# Altium footprint library ON Semi MOSFETs.PcbLib: 92 footprints (part 3 of 6)
Each footprint in its own frame and in the unit in brackets; x right, y up, seen from the top. Pads: shape width x height; smd on the part's side, far side on the other; paste and mask are expansions set on the pad; w line width, h text height; cw(c..) or ccw(c..) is an arc to the next point about the centre after c.
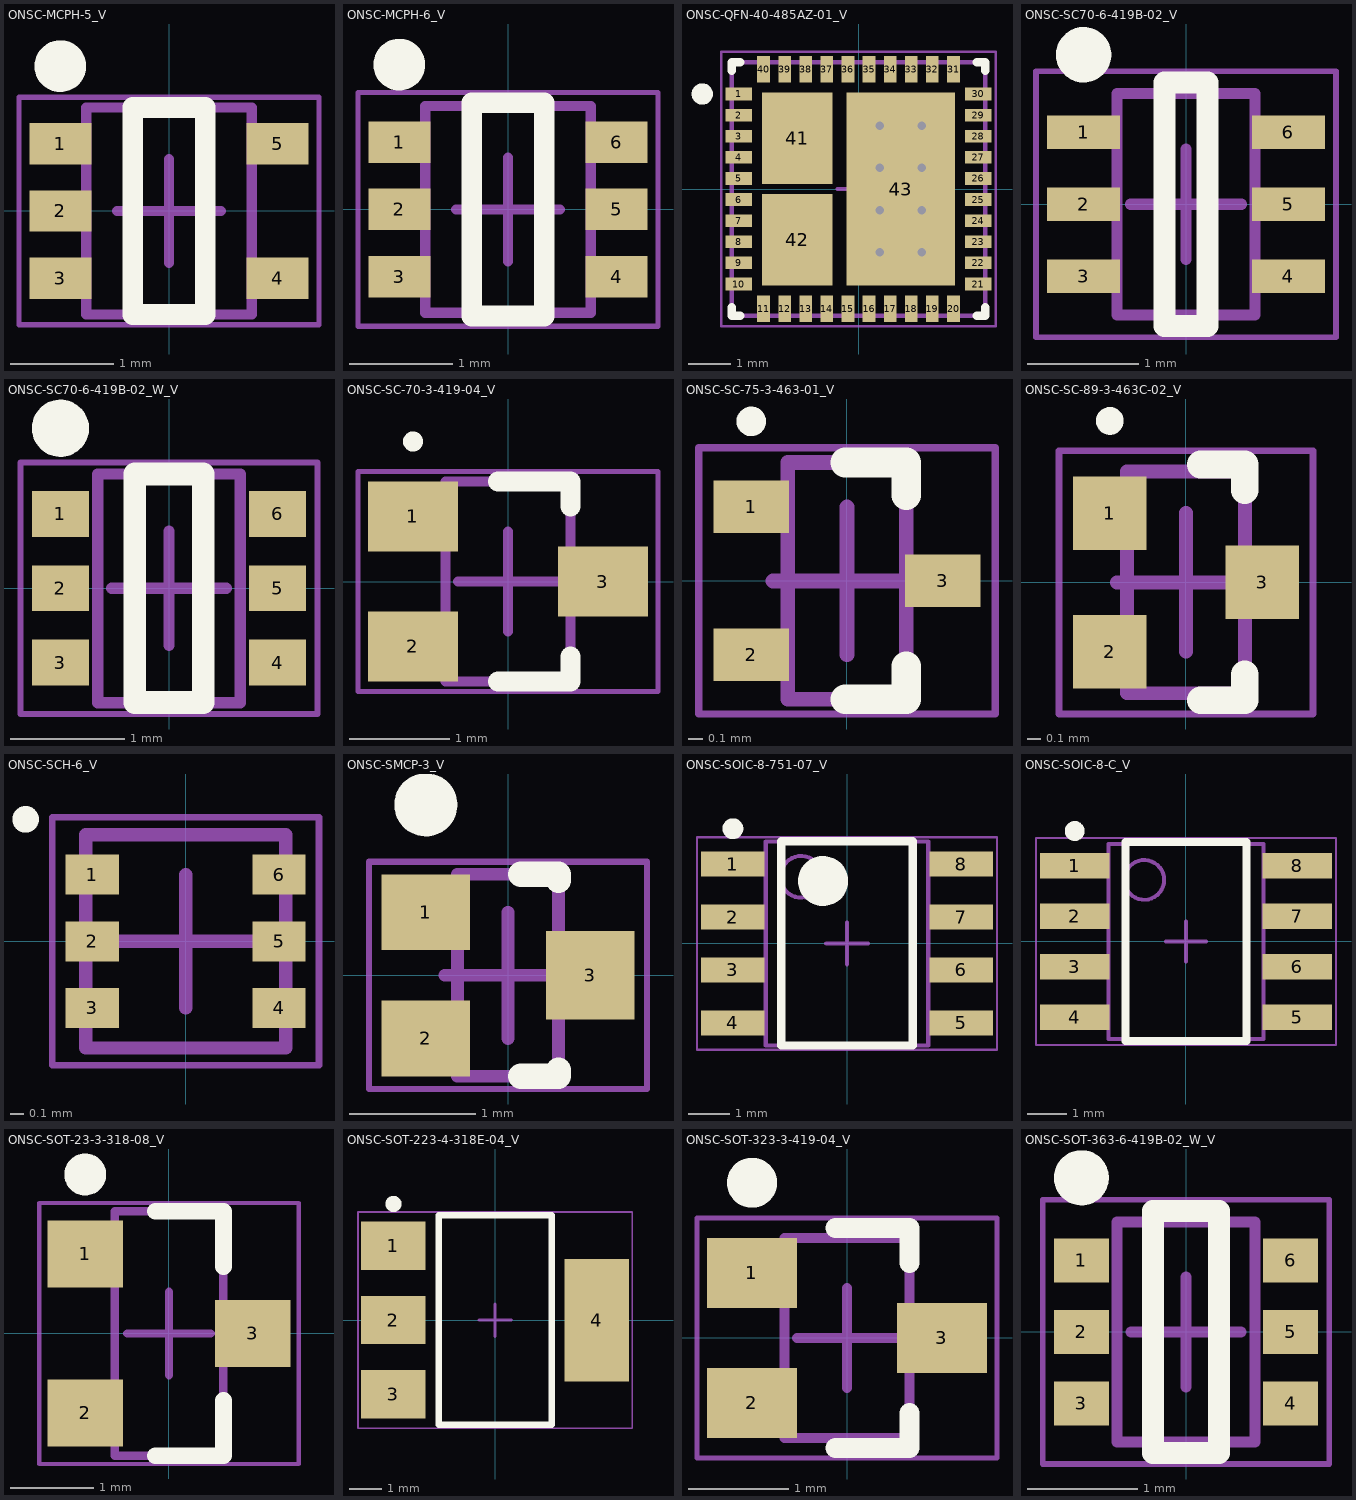
[diagram p2: the footprints below, top view; thin cyan lines are the x and y axes]

## ONSC-MCPH-5_V [mm] "SOT23, 5-Leads, Body 2x1.6mm, Pitch 0.65mm"
height 0.9
pads (5):
  rect 0.6x0.4 smd: 1(-1.05,0.65) 2(-1.05,0) 3(-1.05,-0.65) 4(1.05,-0.65) 5(1.05,0.65)
Top Overlay:
  circle w0.25: c-1.05,1.4 r0.125
  lines w0.2: -0.35,-1 -0.35,1 0.35,1 0.35,-1 -0.35,-1
Mechanical 13:
  lines w0.1: -0.8,-1 -0.8,1 0.8,1 0.8,-1 -0.8,-1
Mechanical 15:
  lines w0.05: -1.45,-1.1 -1.45,1.1 1.45,1.1 1.45,-1.1 -1.45,-1.1
  lines w0.1: -0.5,0 0.5,0 ; 0,-0.5 0,0.5
3D body: height 0.9, standoff 0, extent -0.8,-1 0.8,1

## ONSC-MCPH-6_V [mm] "SOT23, 6-Leads, Body 2x1.6mm, Pitch 0.65mm"
height 0.9
pads (6):
  rect 0.6x0.4 smd: 1(-1.05,0.65) 2(-1.05,0) 3(-1.05,-0.65) 4(1.05,-0.65) 5(1.05,0) 6(1.05,0.65)
Top Overlay:
  circle w0.25: c-1.05,1.4 r0.125
  lines w0.2: -0.35,-1.03 0.35,-1.03 0.35,1.03 -0.35,1.03 -0.35,-1.03
Mechanical 13:
  lines w0.1: -0.8,-1 -0.8,1 0.8,1 0.8,-1 -0.8,-1
Mechanical 15:
  lines w0.05: -1.45,-1.13 -1.45,1.13 1.45,1.13 1.45,-1.13 -1.45,-1.13
  lines w0.1: -0.5,0 0.5,0 ; 0,-0.5 0,0.5
3D body: height 0.9, standoff 0, extent -0.8,-1 0.8,1

## ONSC-QFN-40-485AZ-01_V [mm] "QFN, 40-Leads, Body 6x6mm, Pitch 0.5mm"
height 1
pads (43):
  rect 0.63x0.3 smd: 1(-2.835,2.25) 2(-2.835,1.75) 3(-2.835,1.25) 4(-2.835,0.75) 5(-2.835,0.25) 6(-2.835,-0.25) 7(-2.835,-0.75) 8(-2.835,-1.25) 9(-2.835,-1.75) 10(-2.835,-2.25) 21(2.835,-2.25) 22(2.835,-1.75) 23(2.835,-1.25) 24(2.835,-0.75) 25(2.835,-0.25) 26(2.835,0.25) 27(2.835,0.75) 28(2.835,1.25) 29(2.835,1.75) 30(2.835,2.25)
  rect 0.3x0.63 smd: 11(-2.25,-2.835) 12(-1.75,-2.835) 13(-1.25,-2.835) 14(-0.75,-2.835) 15(-0.25,-2.835) 16(0.25,-2.835) 17(0.75,-2.835) 18(1.25,-2.835) 19(1.75,-2.835) 20(2.25,-2.835) 31(2.25,2.835) 32(1.75,2.835) 33(1.25,2.835) 34(0.75,2.835) 35(0.25,2.835) 36(-0.25,2.835) 37(-0.75,2.835) 38(-1.25,2.835) 39(-1.75,2.835) 40(-2.25,2.835)
  rect 1.66x2.16 smd: 41(-1.45,1.2) 42(-1.45,-1.2)
  rect 2.56x4.56 smd: 43(1,0)
via 0.5,-0.5 diameter 0.5 hole 0.2
via 1.5,-0.5 diameter 0.5 hole 0.2
via 1.5,0.5 diameter 0.5 hole 0.2
via 0.5,0.5 diameter 0.5 hole 0.2
via 1.5,1.5 diameter 0.5 hole 0.2
via 0.5,1.5 diameter 0.5 hole 0.2
via 1.5,-1.5 diameter 0.5 hole 0.2
via 0.5,-1.5 diameter 0.5 hole 0.2
Top Overlay:
  circle w0.25: c-3.7,2.25 r0.125
  lines w0.2: -3,-2.8 -3,-3 -2.8,-3 ; -3,2.8 -3,3 -2.8,3 ; 2.8,-3 3,-3 3,-2.8 ; 2.8,3 3,3 3,2.8
Mechanical 13:
  lines w0.1: -3,-3 -3,3 3,3 3,-3 -3,-3
Mechanical 15:
  lines w0.05: -3.25,-3.25 -3.25,3.25 3.25,3.25 3.25,-3.25 -3.25,-3.25
  lines w0.1: -0.5,0 0.5,0 ; 0,-0.5 0,0.5
3D body: height 1, standoff 0, extent -3,-3 3,3

## ONSC-SC70-6-419B-02_V [mm] "SOT23, 6-Leads, Body 2x1.25mm, Pitch 0.65mm"
height 1.1
pads (6):
  rect 0.66x0.3 smd: 1(-0.925,0.65) 2(-0.925,0) 3(-0.925,-0.65) 4(0.925,-0.65) 5(0.925,0) 6(0.925,0.65)
Top Overlay:
  circle w0.25: c-0.925,1.35 r0.125
  lines w0.2: -0.195,-1.1 0.195,-1.1 0.195,1.1 -0.195,1.1 -0.195,-1.1
Mechanical 13:
  lines w0.1: -0.625,-1 -0.625,1 0.625,1 0.625,-1 -0.625,-1
Mechanical 15:
  lines w0.05: -1.355,-1.2 -1.355,1.2 1.355,1.2 1.355,-1.2 -1.355,-1.2
  lines w0.1: -0.5,0 0.5,0 ; 0,-0.5 0,0.5
3D body: height 1.1, standoff 0, extent -0.625,-1 0.625,1

## ONSC-SC70-6-419B-02_W_V [mm] "SOT23, 6-Leads, Body 2x1.25mm, Pitch 0.65mm"
height 1.1
pads (6):
  rect 0.5x0.4 smd: 1(-0.95,0.65) 2(-0.95,0) 3(-0.95,-0.65) 4(0.95,-0.65) 5(0.95,0) 6(0.95,0.65)
Top Overlay:
  circle w0.25: c-0.95,1.4 r0.125
  lines w0.2: -0.3,-1 0.3,-1 0.3,1 -0.3,1 -0.3,-1
Mechanical 13:
  lines w0.1: -0.625,-1 -0.625,1 0.625,1 0.625,-1 -0.625,-1
Mechanical 15:
  lines w0.05: -1.3,-1.1 -1.3,1.1 1.3,1.1 1.3,-1.1 -1.3,-1.1
  lines w0.1: -0.5,0 0.5,0 ; 0,-0.5 0,0.5
3D body: height 1.1, standoff 0, extent -0.625,-1 0.625,1

## ONSC-SC-70-3-419-04_V [mm] "SOT23, 3-Leads, Body 2x1.25mm, Pitch 0.65mm"
height 1
pads (3):
  rect 0.9x0.7 smd: 1(-0.95,0.65) 2(-0.95,-0.65) 3(0.95,0)
Top Overlay:
  circle w0.1: c-0.95,1.4 r0.05
  lines w0.2: -0.1,-1 0.625,-1 0.625,-0.75 ; -0.1,1 0.625,1 0.625,0.75
Mechanical 13:
  lines w0.1: -0.625,-1 0.625,-1 0.625,1 -0.625,1 -0.625,-1
Mechanical 15:
  lines w0.05: -1.5,-1.1 1.5,-1.1 1.5,1.1 -1.5,1.1 -1.5,-1.1
  lines w0.1: -0.5,0 0.5,0 ; 0,-0.5 0,0.5
3D body: height 1, standoff 0, extent -0.625,-1 0.625,1

## ONSC-SC-75-3-463-01_V [mil] "SOT23, 3-Leads, Body 1.6x0.8mm, Pitch 0.5mm"
height 35.43
pads (3):
  rect 20x14.02 smd: 1(-25.49,19.68) 2(-25.49,-19.69) 3(25.49,0)
Top Overlay:
  circle w3.94: c-25.47,42.44 r1.97
  lines w7.87: -0.5,-31.5 15.75,-31.5 15.75,-22.76 ; -0.5,31.5 15.75,31.5 15.75,22.76
Mechanical 13:
  lines w3.94: -15.75,-31.5 -15.75,31.5 15.75,31.5 15.75,-31.5 -15.75,-31.5
Mechanical 15:
  lines w1.97: -39.43,-35.43 -39.43,35.43 39.43,35.43 39.43,-35.43 -39.43,-35.43
  lines w3.94: -19.68,0 19.69,0 ; 0,-19.69 0,19.68
3D body: height 35.43, standoff 0, extent -15.75,-31.5 15.75,31.5

## ONSC-SC-89-3-463C-02_V [mm] "SOT23, 3-Leads, Body 1.6x0.85mm, Pitch 0.5mm"
height 0.8
pads (3):
  rect 0.53x0.53 smd: 1(-0.55,0.5) 2(-0.55,-0.5) 3(0.55,0)
Top Overlay:
  circle w0.1: c-0.55,1.165 r0.05
  lines w0.2: 0.106,-0.85 0.425,-0.85 0.425,-0.665 ; 0.106,0.85 0.425,0.85 0.425,0.665
Mechanical 13:
  lines w0.1: -0.425,-0.8 0.425,-0.8 0.425,0.8 -0.425,0.8 -0.425,-0.8
Mechanical 15:
  lines w0.05: -0.915,-0.95 0.915,-0.95 0.915,0.95 -0.915,0.95 -0.915,-0.95
  lines w0.1: -0.5,0 0.5,0 ; 0,-0.5 0,0.5
3D body: height 0.8, standoff 0, extent -0.425,-0.8 0.425,0.8

## ONSC-SCH-6_V [mm] "SON, 6-Leads, Body 1.6x1.5mm, Pitch 0.5mm"
height 0.6
pads (6):
  rect 0.4x0.3 smd: 1(-0.7,0.5) 2(-0.7,0) 3(-0.7,-0.5) 4(0.7,-0.5) 5(0.7,0) 6(0.7,0.5)
Top Overlay:
  circle w0.1: c-1.2,0.915 r0.05
Mechanical 13:
  lines w0.1: -0.75,-0.8 0.75,-0.8 0.75,0.8 -0.75,0.8 -0.75,-0.8
Mechanical 15:
  lines w0.05: -1,-0.93 1,-0.93 1,0.93 -1,0.93 -1,-0.93
  lines w0.1: -0.5,0 0.5,0 ; 0,-0.5 0,0.5
3D body: height 0.6, standoff 0, extent -0.75,-0.8 0.75,0.8

## ONSC-SMCP-3_V [mm] "SOT23, 3-Leads, Body 1.6x0.8mm, Pitch 0.5mm"
height 0.912
pads (3):
  rect 0.7x0.6 smd: 1(-0.65,0.5) 2(-0.65,-0.5)
  rect 0.7x0.7 smd: 3(0.65,0)
Top Overlay:
  circle w0.25: c-0.65,1.35 r0.125
  lines w0.2: 0.1,-0.8 0.4,-0.8 0.4,-0.75 ; 0.1,0.8 0.4,0.8 0.4,0.75
Mechanical 13:
  lines w0.1: -0.4,-0.8 0.4,-0.8 0.4,0.8 -0.4,0.8 -0.4,-0.8
Mechanical 15:
  lines w0.05: -1.1,-0.9 1.1,-0.9 1.1,0.9 -1.1,0.9 -1.1,-0.9
  lines w0.1: -0.5,0 0.5,0 ; 0,-0.5 0,0.5
3D body: height 0.91, standoff 0, extent -0.4,-0.8 0.4,0.8

## ONSC-SOIC-8-751-07_V [mm] "SOIC, 8-Leads, Body 4.9x3.9mm, Pitch 1.27mm"
height 1.75
pads (8):
  rect 1.52x0.6 smd: 1(-2.74,1.905) 2(-2.74,0.635) 3(-2.74,-0.635) 4(-2.74,-1.905) 5(2.74,-1.905) 6(2.74,-0.635) 7(2.74,0.635) 8(2.74,1.905)
Top Overlay:
  circle w0.25: c-2.74,2.755 r0.125
  circle w0.6: c-0.575,1.5 r0.3
  lines w0.2: -1.58,-2.45 -1.58,2.45 1.58,2.45 1.58,-2.45 -1.58,-2.45
Mechanical 13:
  circle w0.1: c-1.1,1.6 r0.5
  lines w0.1: -1.95,-2.45 -1.95,2.45 1.95,2.45 1.95,-2.45 -1.95,-2.45
Mechanical 15:
  lines w0.05: -3.6,-2.55 -3.6,2.55 3.6,2.55 3.6,-2.55 -3.6,-2.55
  lines w0.1: -0.5,0 0.5,0 ; 0,-0.5 0,0.5
3D body: height 1.75, standoff 0.1, extent -1.95,-2.45 1.95,2.45

## ONSC-SOIC-8-C_V [mm] "SOIC, 8-Leads, Body 4.9x3.9mm, Pitch 1.27mm"
height 1.75
pads (8):
  rect 1.75x0.65 smd: 1(-2.8,1.905) 2(-2.8,0.635) 3(-2.8,-0.635) 4(-2.8,-1.905) 5(2.8,-1.905) 6(2.8,-0.635) 7(2.8,0.635) 8(2.8,1.905)
Top Overlay:
  circle w0.25: c-2.8,2.78 r0.125
  lines w0.2: -1.525,-2.5 1.525,-2.5 1.525,2.5 -1.525,2.5 -1.525,-2.5
Mechanical 13:
  circle w0.1: c-1.05,1.55 r0.5
  lines w0.1: -1.95,-2.45 -1.95,2.45 1.95,2.45 1.95,-2.45 -1.95,-2.45
Mechanical 15:
  lines w0.05: -3.775,-2.6 -3.775,2.6 3.775,2.6 3.775,-2.6 -3.775,-2.6
  lines w0.1: -0.5,0 0.5,0 ; 0,-0.5 0,0.5
3D body: height 1.75, standoff 0.1, extent -1.95,-2.45 1.95,2.45

## ONSC-SOT-23-3-318-08_V [mm] "SOT23, 3-Leads, Body 2.92x1.3mm, Pitch 0.95mm"
height 1.11
pads (3):
  rect 0.9x0.8 smd: 1(-1,0.95) 2(-1,-0.95) 3(1,0)
Top Overlay:
  circle w0.25: c-1,1.9 r0.125
  lines w0.2: -0.165,-1.46 0.65,-1.46 0.65,-0.8 ; -0.165,1.46 0.65,1.46 0.65,0.8
Mechanical 13:
  lines w0.1: -0.65,-1.46 0.65,-1.46 0.65,1.46 -0.65,1.46 -0.65,-1.46
Mechanical 15:
  lines w0.05: -1.55,-1.56 1.55,-1.56 1.55,1.56 -1.55,1.56 -1.55,-1.56
  lines w0.1: -0.5,0 0.5,0 ; 0,-0.5 0,0.5
3D body: height 1.11, standoff 0.01, extent -0.65,-1.46 0.65,1.46

## ONSC-SOT-223-4-318E-04_V [mm] "SOT223, 4-Leads, Body 6.5x3.5mm, Pitch 2.3mm"
height 1.75
pads (4):
  rect 2x1.5 smd: 1(-3.15,2.3) 2(-3.15,0) 3(-3.15,-2.3)
  rect 2x3.8 smd: 4(3.15,0)
Top Overlay:
  circle w0.25: c-3.15,3.6 r0.125
  lines w0.2: -1.75,-3.25 1.75,-3.25 1.75,3.25 -1.75,3.25 -1.75,-3.2
Mechanical 13:
  lines w0.1: -1.75,-3.25 1.75,-3.25 1.75,3.25 -1.75,3.25 -1.75,-3.25
Mechanical 15:
  lines w0.05: -4.25,-3.35 -4.25,3.35 4.25,3.35 4.25,-3.35 -4.25,-3.35
  lines w0.1: -0.5,0 0.5,0 ; 0,-0.5 0,0.5
3D body: height 1.75, standoff 0.02, extent -1.75,-3.25 1.75,3.25

## ONSC-SOT-323-3-419-04_V [mm] "SOT23, 3-Leads, Body 2x1.25mm, Pitch 0.65mm"
height 1
pads (3):
  rect 0.9x0.7 smd: 1(-0.95,0.65) 2(-0.95,-0.65) 3(0.95,0)
Top Overlay:
  circle w0.25: c-0.95,1.55 r0.125
  lines w0.2: -0.113,-1.1 0.625,-1.1 0.625,-0.75 ; -0.113,1.1 0.625,1.1 0.625,0.75
Mechanical 13:
  lines w0.1: -0.625,-1 0.625,-1 0.625,1 -0.625,1 -0.625,-1
Mechanical 15:
  lines w0.05: -1.5,-1.2 1.5,-1.2 1.5,1.2 -1.5,1.2 -1.5,-1.2
  lines w0.1: -0.5,0 0.5,0 ; 0,-0.5 0,0.5
3D body: height 1, standoff 0, extent -0.625,-1 0.625,1

## ONSC-SOT-363-6-419B-02_W_V [mm] "SOT23, 6-Leads, Body 2x1.25mm, Pitch 0.65mm"
height 1.1
pads (6):
  rect 0.5x0.4 smd: 1(-0.95,0.65) 2(-0.95,0) 3(-0.95,-0.65) 4(0.95,-0.65) 5(0.95,0) 6(0.95,0.65)
Top Overlay:
  circle w0.25: c-0.95,1.4 r0.125
  lines w0.2: -0.3,-1.1 -0.3,1.1 0.3,1.1 0.3,-1.1 -0.3,-1.1
Mechanical 13:
  lines w0.1: -0.625,-1 0.625,-1 0.625,1 -0.625,1 -0.625,-1
Mechanical 15:
  lines w0.05: -1.3,-1.2 1.3,-1.2 1.3,1.2 -1.3,1.2 -1.3,-1.2
  lines w0.1: -0.5,0 0.5,0 ; 0,-0.5 0,0.5
3D body: height 1.1, standoff 0, extent -0.625,-1 0.625,1